# Altium schematic symbol library mva_General.SchLib: 22 symbols
Pins are listed as number, name and electrical type; pins without a type are passive.

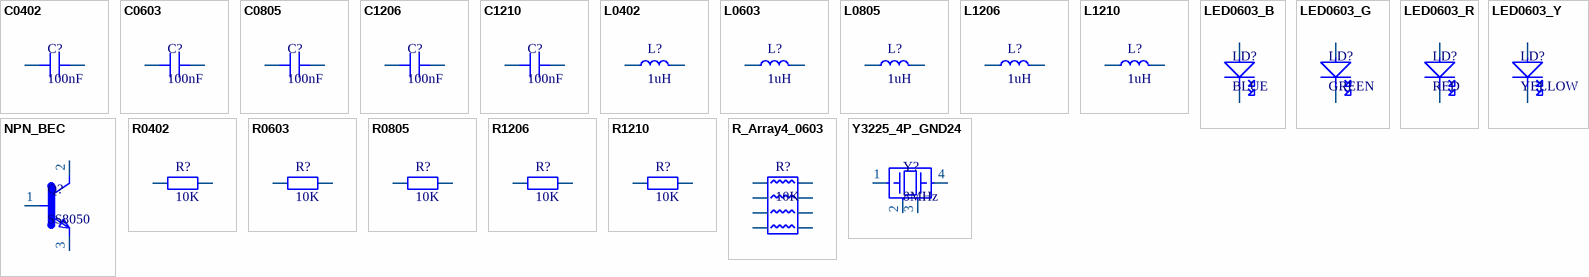
[diagram p0: symbols C0402 to Y3225_4P_GND24]

## C0402
designator C?, comment 100nF
Capacitor SMD 0402.; Package: 0603
footprint C0603 (Capacitor SMD 0603.)
pins: 1, 2

## C0603
designator C?, comment 100nF
Capacitor SMD 0603.; Package: 0603
footprint C0603 (Capacitor SMD 0603.)
pins: 1, 2

## C0805
designator C?, comment 100nF
Capacitor SMD 0805.; Package: 0603
footprint C0603 (Capacitor SMD 0603.)
pins: 1, 2

## C1206
designator C?, comment 100nF
Capacitor SMD 1206.; Package: 0603
footprint C0603 (Capacitor SMD 0603.)
pins: 1, 2

## C1210
designator C?, comment 100nF
Capacitor SMD 1210.; Package: 0603
footprint C0603 (Capacitor SMD 0603.)
pins: 1, 2

## L0402
designator L?, comment 1uH
Inductor SMD 0402.; Package: 0603
footprint L0603 (Inductor SMD 0603.)
pins: 1, 2

## L0603
designator L?, comment 1uH
Inductor SMD 0603.; Package: 0603
footprint L0603 (Inductor SMD 0603.)
pins: 1, 2

## L0805
designator L?, comment 1uH
Inductor SMD 0805.; Package: 0603
footprint L0603 (Inductor SMD 0603.)
pins: 1, 2

## L1206
designator L?, comment 1uH
Inductor SMD 1206.; Package: 0603
footprint L0603 (Inductor SMD 0603.)
pins: 1, 2

## L1210
designator L?, comment 1uH
Inductor SMD 1210.; Package: 0603
footprint L0603 (Inductor SMD 0603.)
pins: 1, 2

## LED0603_B
designator LD?, comment BLUE
Led SMD 0603 Blue.
footprint LED0603_B
pins: 1, 2

## LED0603_G
designator LD?, comment GREEN
Led SMD 0603 Green.
footprint LED0603_G
pins: 1, 2

## LED0603_R
designator LD?, comment RED
Led SMD 0603 Red.
footprint LED0603_R
pins: 1, 2

## LED0603_Y
designator LD?, comment YELLOW
Led SMD 0603 Yellow.
footprint LED0603_Y
pins: 1, 2

## NPN_BEC
designator Q?, comment SS8050
NPN Transistor BEC.
footprint SOT-23-3
pins: 1, 2, 3

## R0402
designator R?, comment 10K
Resistor SMD 0402.; Package: SMD_0603_2
footprint R0603 (Chip Resistor SMD 0603)
pins: 1, 2

## R0603
designator R?, comment 10K
Resistor SMD 0603.; Package: SMD_0603_2
footprint R0603 (Chip Resistor SMD 0603)
pins: 1, 2

## R0805
designator R?, comment 10K
Resistor SMD 0805.; Package: SMD_0603_2
footprint R0603 (Chip Resistor SMD 0603)
pins: 1, 2

## R1206
designator R?, comment 10K
Resistor SMD 1206.; Package: SMD_0603_2
footprint R0603 (Chip Resistor SMD 0603)
pins: 1, 2

## R1210
designator R?, comment 10K
Resistor SMD 1210.; Package: SMD_0603_2
footprint R0603 (Chip Resistor SMD 0603)
pins: 1, 2

## R_Array4_0603
designator R?, comment 10K
Resistor SMD 0603 array 4.
footprint R0603_Array4 (Resistor SMD 0603 array 4.)
pins: 1, 2, 3, 4, 5, 6, 7, 8

## Y3225_4P_GND24
designator Y?, comment 8MHz
Crystal SMD 3225 4 pin, GND pin 2-4.; Package: SMD_3225_4
footprint Y3225_4P_GND24 (Crystal SMD_3225 4p)
pins: 1, 2, 3, 4